# Altium footprint library INCLib.PcbLib: 2 footprints
Each footprint in its own frame and in the unit in brackets; x right, y up, seen from the top. Pads: shape width x height; smd on the part's side, far side on the other; paste and mask are expansions set on the pad; w line width, h text height; cw(c..) or ccw(c..) is an arc to the next point about the centre after c.
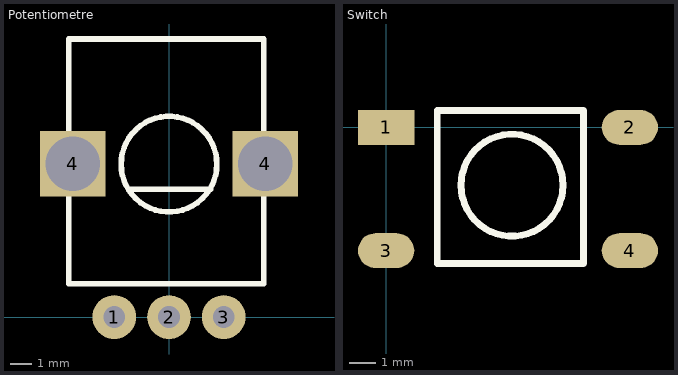
[diagram p0: the footprints below, top view; thin cyan lines are the x and y axes]

## Potentiometre [mm]
pads (5):
  round 2 hole 1: 1(-2.5,0) 2(0,0) 3(2.5,0)
  rect 3x3 hole 2.5: 4(-4.4,7) 4(4.4,7)
Top Overlay:
  circle w0.254: c0,6.985 r2.185
  lines w0.254: -1.778,5.842 1.905,5.842 ; -4.572,1.524 -4.572,12.7 4.318,12.7 4.318,1.524 -4.572,1.524

## Switch [mm]
height 5
pads (4):
  rect 2.1x1.3 smd: 1(0,0)
  oval 2.1x1.3 smd: 2(9.1,0) 3(0,-4.6) 4(9.1,-4.6)
Top Overlay:
  circle w0.254: c4.699,-2.159 r1.905
  lines w0.254: 1.905,-5.08 7.366,-5.08 7.366,0.635 1.905,0.635 1.905,-5.08